# Altium footprint library SL-36.PcbLib: 7 footprints
Each footprint in its own frame and in the unit in brackets; x right, y up, seen from the top. Pads: shape width x height; smd on the part's side, far side on the other; paste and mask are expansions set on the pad; w line width, h text height; cw(c..) or ccw(c..) is an arc to the next point about the centre after c.
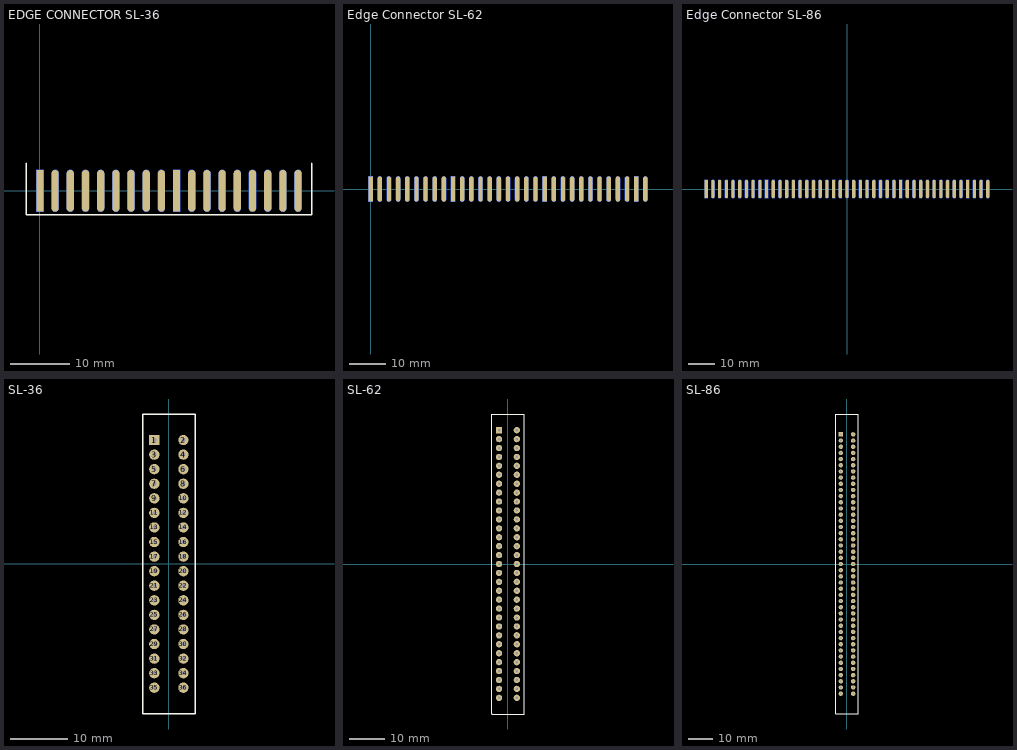
[diagram p0: the footprints below, top view; thin cyan lines are the x and y axes]

## EDGE CONNECTOR SL-36 [mm]
pads (36):
  rect 1.2x7 smd: 1(0,0) 19(22.86,0)
  rect 1.2x7 smd far side: 2(0,0) 20(22.86,0)
  oval 1.2x7 smd: 3(2.54,0) 5(5.08,0) 7(7.62,0) 9(10.16,0) 11(12.7,0) 13(15.24,0) 15(17.78,0) 17(20.32,0) 21(25.4,0) 23(27.94,0) 25(30.48,0) 27(33.02,0) 29(35.56,0) 31(38.1,0) 33(40.64,0) 35(43.18,0)
  oval 1.2x7 smd far side: 4(2.54,0) 6(5.08,0) 8(7.62,0) 10(10.16,0) 12(12.7,0) 14(15.24,0) 16(17.78,0) 18(20.32,0) 22(25.4,0) 24(27.94,0) 26(30.48,0) 28(33.02,0) 30(35.56,0) 32(38.1,0) 34(40.64,0) 36(43.18,0)
Top Overlay:
  lines w0.254: -2.3,4.6 -2.3,-4 45.48,-4 45.48,4.6
Bottom Overlay:
  lines w0.254: -2.3,4.6 -2.3,-4 45.48,-4 45.48,4.6

## Edge Connector SL-62 [mm]
pads (62):
  rect 1.2x7 smd: A1(0,0) A10(22.86,0) A20(48.26,0) A30(73.66,0)
  oval 1.2x7 smd: A2(2.54,0) A3(5.08,0) A4(7.62,0) A5(10.16,0) A6(12.7,0) A7(15.24,0) A8(17.78,0) A9(20.32,0) A11(25.4,0) A12(27.94,0) A13(30.48,0) A14(33.02,0) A15(35.56,0) A16(38.1,0) A17(40.64,0) A18(43.18,0) A19(45.72,0) A21(50.8,0) A22(53.34,0) A23(55.88,0) A24(58.42,0) A25(60.96,0) A26(63.5,0) A27(66.04,0) A28(68.58,0) A29(71.12,0) A31(76.2,0)
  rect 1.2x7 smd far side: B1(0,0) B10(22.86,0) B20(48.26,0) B30(73.66,0)
  oval 1.2x7 smd far side: B2(2.54,0) B3(5.08,0) B4(7.62,0) B5(10.16,0) B6(12.7,0) B7(15.24,0) B8(17.78,0) B9(20.32,0) B11(25.4,0) B12(27.94,0) B13(30.48,0) B14(33.02,0) B15(35.56,0) B16(38.1,0) B17(40.64,0) B18(43.18,0) B19(45.72,0) B21(50.8,0) B22(53.34,0) B23(55.88,0) B24(58.42,0) B25(60.96,0) B26(63.5,0) B27(66.04,0) B28(68.58,0) B29(71.12,0) B31(76.2,0)

## Edge Connector SL-86 [mm]
pads (86):
  rect 1.2x7 smd: A1(-53.34,0) A10(-30.48,0) A20(-5.08,0) A30(20.32,0) A40(45.72,0)
  oval 1.2x7 smd: A2(-50.8,0) A3(-48.26,0) A4(-45.72,0) A5(-43.18,0) A6(-40.64,0) A7(-38.1,0) A8(-35.56,0) A9(-33.02,0) A11(-27.94,0) A12(-25.4,0) A13(-22.86,0) A14(-20.32,0) A15(-17.78,0) A16(-15.24,0) A17(-12.7,0) A18(-10.16,0) A19(-7.62,0) A21(-2.54,0) A22(0,0) A23(2.54,0) A24(5.08,0) A25(7.62,0) A26(10.16,0) A27(12.7,0) A28(15.24,0) A29(17.78,0) A31(22.86,0) A32(25.4,0) A33(27.94,0) A34(30.48,0) A35(33.02,0) A36(35.56,0) A37(38.1,0) A38(40.64,0) A39(43.18,0) A41(48.26,0) A42(50.8,0) A43(53.34,0)
  rect 1.2x7 smd far side: B1(-53.34,0) B10(-30.48,0) B20(-5.08,0) B30(20.32,0) B40(45.72,0)
  oval 1.2x7 smd far side: B2(-50.8,0) B3(-48.26,0) B4(-45.72,0) B5(-43.18,0) B6(-40.64,0) B7(-38.1,0) B8(-35.56,0) B9(-33.02,0) B11(-27.94,0) B12(-25.4,0) B13(-22.86,0) B14(-20.32,0) B15(-17.78,0) B16(-15.24,0) B17(-12.7,0) B18(-10.16,0) B19(-7.62,0) B21(-2.54,0) B22(0,0) B23(2.54,0) B24(5.08,0) B25(7.62,0) B26(10.16,0) B27(12.7,0) B28(15.24,0) B29(17.78,0) B31(22.86,0) B32(25.4,0) B33(27.94,0) B34(30.48,0) B35(33.02,0) B36(35.56,0) B37(38.1,0) B38(40.64,0) B39(43.18,0) B41(48.26,0) B42(50.8,0) B43(53.34,0)

## Edge Connector SL-98 - duplicate [mm]

## SL-36 [mm]
pads (36):
  rect 1.8x1.8 hole 0.7: 1(-2.54,21.59)
  round 1.8 hole 0.7: 2(2.54,21.59) 3(-2.54,19.05) 4(2.54,19.05) 5(-2.54,16.51) 6(2.54,16.51) 7(-2.54,13.97) 8(2.54,13.97) 9(-2.54,11.43) 10(2.54,11.43) 11(-2.54,8.89) 12(2.54,8.89) 13(-2.54,6.35) 14(2.54,6.35) 15(-2.54,3.81) 16(2.54,3.81) 17(-2.54,1.27) 18(2.54,1.27) 19(-2.54,-1.27) 20(2.54,-1.27) 21(-2.54,-3.81) 22(2.54,-3.81) 23(-2.54,-6.35) 24(2.54,-6.35) 25(-2.54,-8.89) 26(2.54,-8.89) 27(-2.54,-11.43) 28(2.54,-11.43) 29(-2.54,-13.97) 30(2.54,-13.97) 31(-2.54,-16.51) 32(2.54,-16.51) 33(-2.54,-19.05) 34(2.54,-19.05) 35(-2.54,-21.59) 36(2.54,-21.59)
Top Overlay:
  lines w0.254: -4.58,-26.17 -4.58,26.13 4.62,26.13 4.62,-26.17 -4.58,-26.17

## SL-62 [mm]
pads (62):
  rect 1.8x1.8 hole 0.7: 1(-2.54,38.1)
  round 1.8 hole 0.7: 2(2.54,38.1) 3(-2.54,35.56) 4(2.54,35.56) 5(-2.54,33.02) 6(2.54,33.02) 7(-2.54,30.48) 8(2.54,30.48) 9(-2.54,27.94) 10(2.54,27.94) 11(-2.54,25.4) 12(2.54,25.4) 13(-2.54,22.86) 14(2.54,22.86) 15(-2.54,20.32) 16(2.54,20.32) 17(-2.54,17.78) 18(2.54,17.78) 19(-2.54,15.24) 20(2.54,15.24) 21(-2.54,12.7) 22(2.54,12.7) 23(-2.54,10.16) 24(2.54,10.16) 25(-2.54,7.62) 26(2.54,7.62) 27(-2.54,5.08) 28(2.54,5.08) 29(-2.54,2.54) 30(2.54,2.54) 31(-2.54,0) 32(2.54,0) 33(-2.54,-2.54) 34(2.54,-2.54) 35(-2.54,-5.08) 36(2.54,-5.08) 37(-2.54,-7.62) 38(2.54,-7.62) 39(-2.54,-10.16) 40(2.54,-10.16) 41(-2.54,-12.7) 42(2.54,-12.7) 43(-2.54,-15.24) 44(2.54,-15.24) 45(-2.54,-17.78) 46(2.54,-17.78) 47(-2.54,-20.32) 48(2.54,-20.32) 49(-2.54,-22.86) 50(2.54,-22.86) 51(-2.54,-25.4) 52(2.54,-25.4) 53(-2.54,-27.94) 54(2.54,-27.94) 55(-2.54,-30.48) 56(2.54,-30.48) 57(-2.54,-33.02) 58(2.54,-33.02) 59(-2.54,-35.56) 60(2.54,-35.56) 61(-2.54,-38.1) 62(2.54,-38.1)
Top Overlay:
  lines w0.254: -4.6,-42.693 -4.585,-42.707 4.625,-42.707 4.625,42.707 -4.6,42.707 -4.6,-42.625 -4.6,-42.693
Mechanical 1:
  lines w0.254: -4.6,-42.625 -4.585,-42.64

## SL-86 [mm]
pads (86):
  rect 1.8x1.8 hole 0.7: 1(-2.54,53.34)
  round 1.8 hole 0.7: 2(2.54,53.34) 3(-2.54,50.8) 4(2.54,50.8) 5(-2.54,48.26) 6(2.54,48.26) 7(-2.54,45.72) 8(2.54,45.72) 9(-2.54,43.18) 10(2.54,43.18) 11(-2.54,40.64) 12(2.54,40.64) 13(-2.54,38.1) 14(2.54,38.1) 15(-2.54,35.56) 16(2.54,35.56) 17(-2.54,33.02) 18(2.54,33.02) 19(-2.54,30.48) 20(2.54,30.48) 21(-2.54,27.94) 22(2.54,27.94) 23(-2.54,25.4) 24(2.54,25.4) 25(-2.54,22.86) 26(2.54,22.86) 27(-2.54,20.32) 28(2.54,20.32) 29(-2.54,17.78) 30(2.54,17.78) 31(-2.54,15.24) 32(2.54,15.24) 33(-2.54,12.7) 34(2.54,12.7) 35(-2.54,10.16) 36(2.54,10.16) 37(-2.54,7.62) 38(2.54,7.62) 39(-2.54,5.08) 40(2.54,5.08) 41(-2.54,2.54) 42(2.54,2.54) 43(-2.54,0) 44(2.54,0) 45(-2.54,-2.54) 46(2.54,-2.54) 47(-2.54,-5.08) 48(2.54,-5.08) 49(-2.54,-7.62) 50(2.54,-7.62) 51(-2.54,-10.16) 52(2.54,-10.16) 53(-2.54,-12.7) 54(2.54,-12.7) 55(-2.54,-15.24) 56(2.54,-15.24) 57(-2.54,-17.78) 58(2.54,-17.78) 59(-2.54,-20.32) 60(2.54,-20.32) 61(-2.54,-22.86) 62(2.54,-22.86) 63(-2.54,-25.4) 64(2.54,-25.4) 65(-2.54,-27.94) 66(2.54,-27.94) 67(-2.54,-30.48) 68(2.54,-30.48) 69(-2.54,-33.02) 70(2.54,-33.02) 71(-2.54,-35.56) 72(2.54,-35.56) 73(-2.54,-38.1) 74(2.54,-38.1) 75(-2.54,-40.64) 76(2.54,-40.64) 77(-2.54,-43.18) 78(2.54,-43.18) 79(-2.54,-45.72) 80(2.54,-45.72) 81(-2.54,-48.26) 82(2.54,-48.26) 83(-2.54,-50.8) 84(2.54,-50.8) 85(-2.54,-53.34) 86(2.54,-53.34)
Top Overlay:
  lines w0.254: -4.6,-61.72 -4.6,57.88 -4.6,61.73 4.625,61.73 4.625,57.88 4.625,-61.72 -4.6,-61.72